# EAGLE library part XH2.54_8P (library connector)
Connector VERTICAL 2.54 pitch
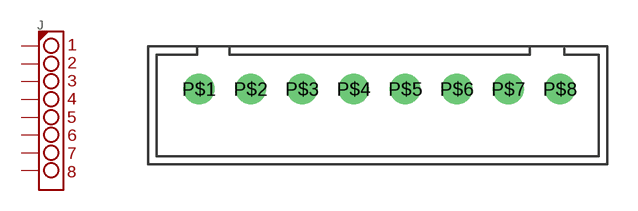
[diagram p15: symbol with the pads of XH2.54_8P; footprint XH2.54_8P]

Designator prefix J

## XH2.54_8P  [XH2.54_8P]
P$1  P$1
P$2  P$2
P$3  P$3
P$4  P$4
P$5  P$5
P$6  P$6
P$7  P$7
P$8  P$8

## Footprint XH2.54_8P (pad centres in mm)
drill 1: P$1 -8.8,0.8; P$2 -6.26,0.8; P$3 -3.72,0.8; P$4 -1.18,0.8; P$5 1.36,0.8; P$6 3.9,0.8; P$7 6.44,0.8; P$8 8.98,0.8